# EAGLE library part AD706JRZ-REEL-REEL7 (library AD706JRZ)
Picoampere Input Current Dual Bipolar Op Amp
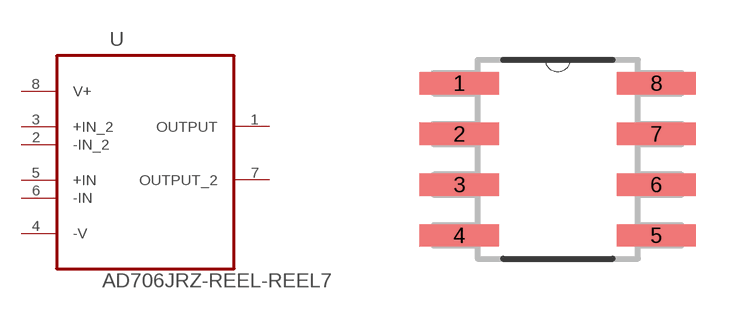
[diagram p0: symbol with the pads of SOIC127P600X175-8N; footprint SOIC127P600X175-8N]

Designator prefix U

## AD706JRZ-REEL-REEL7 (Availability: Unavailable; Description: Ic Opamp Gp Dual Prec 15ma 8soic - Ad706jrz-Reel7; MF: Analog Devices; MP: AD706JRZ-REEL7; Package: SOIC-8 Analog Devices; Price: None)  [SOIC127P600X175-8N]
1  OUTPUT  out
2  -IN_2  in
3  +IN_2  in
4  -V  pwr
5  +IN  in
6  -IN  in
7  OUTPUT_2  out
8  V+  pwr

## Footprint SOIC127P600X175-8N (pad centres in mm)
smd 1.981 x 0.559: 1 -2.464,1.905; 2 -2.464,0.635; 3 -2.464,-0.635; 4 -2.464,-1.905; 5 2.464,-1.905; 6 2.464,-0.635; 7 2.464,0.635; 8 2.464,1.905